# Altium footprint library CAPRAD.PcbLib: 3 footprints
Each footprint in its own frame and in the unit in brackets; x right, y up, seen from the top. Pads: shape width x height; smd on the part's side, far side on the other; paste and mask are expansions set on the pad; w line width, h text height; cw(c..) or ccw(c..) is an arc to the next point about the centre after c.
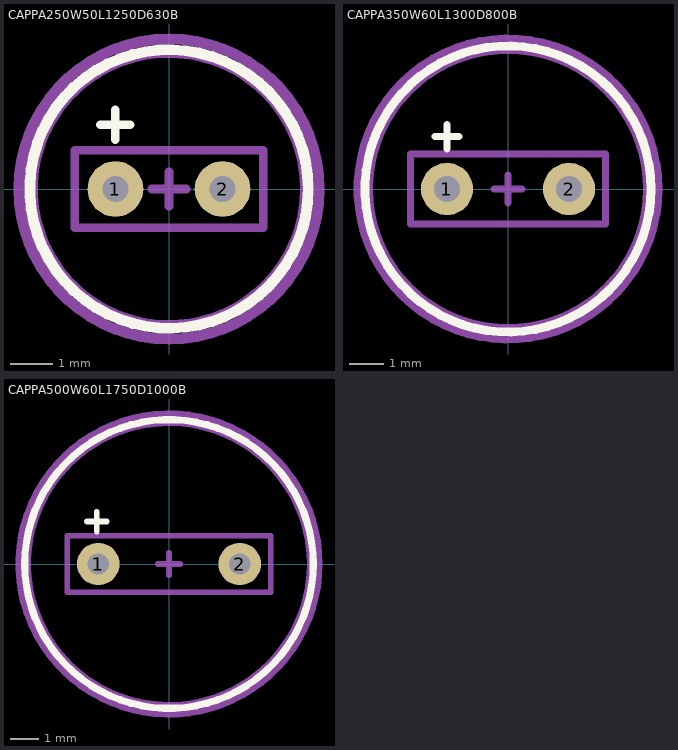
[diagram p0: the footprints below, top view; thin cyan lines are the x and y axes]

## CAPPA250W50L1250D630B [mm] "CAPPA + Lead Spacing + W Lead Width + L Body Length + D Body Diameter"
pads (2):
  round 1.3 hole 0.6: 1(-1.25,0) 2(1.25,0)
Top Overlay:
  circle w0.254: c0,0 r3.25
  lines w0.2: -1.6,1.5 -0.9,1.5 ; -1.25,1.15 -1.25,1.85
Top Assembly:
  circle w0.254: c0,0 r3.189
  lines w0.2: -0.4,0 0.4,0 ; 0,-0.4 0,0.4
  text ".Designator" at -1.825,-2.117 h1
Top Courtyard:
  circle w0.254: c0,0 r3.5
Bottom Courtyard:
  lines w0.2: -2.2,-0.9 2.2,-0.9 2.2,0.9 -1.8,0.9 -2.2,0.9 -2.2,-0.9
3D body "6.3x12.5.STEP": height 12.55, standoff -2.45, extent -3.15,-3.15 3.16,3.15

## CAPPA350W60L1300D800B [mm] "CAPPA + Lead Spacing + W Lead Width + L Body Length + D Body Diameter"
pads (2):
  round 1.5 hole 0.75: 1(-1.75,0) 2(1.75,0)
Top Overlay:
  circle w0.254: c0,0 r4.1
  lines w0.2: -2.1,1.5 -1.4,1.5 ; -1.75,1.15 -1.75,1.85
Top Assembly:
  circle w0.254: c0,0 r4.001
  lines w0.2: -0.4,0 0.4,0 ; 0,-0.4 0,0.4
  text ".Designator" at -1.825,-2.117 h1
Top Courtyard:
  circle w0.254: c0,0 r4.3
Bottom Courtyard:
  lines w0.2: -2.8,-1 -2.8,1 -1.8,1 2.8,1 2.8,-1 -2.8,-1
3D body "8.0x13.STEP": height 13.05, standoff -2.45, extent -4,-4 4.01,4

## CAPPA500W60L1750D1000B [mm] "CAPPA + Lead Spacing + W Lead Width + L Body Length + D Body Diameter"
pads (2):
  round 1.5 hole 0.75: 1(-2.5,0) 2(2.5,0)
Top Overlay:
  circle w0.254: c0,0 r5.1
  lines w0.2: -2.9,1.5 -2.2,1.5 ; -2.55,1.15 -2.55,1.85
Top Assembly:
  circle w0.254: c0,0 r5
  lines w0.2: -0.4,0 0.4,0 ; 0,-0.4 0,0.4
  text ".Designator" at -1.825,-2.117 h1
Top Courtyard:
  circle w0.254: c0,0 r5.3
Bottom Courtyard:
  lines w0.2: -3.6,-1 -3.6,1 -1.8,1 3.6,1 3.6,-1 -3.6,-1
3D body "10.0x17.5.STEP": height 17.55, standoff -2.45, extent -5,-5 5.005,5